# EAGLE library part MCP4728 (library ds_ic_peripherals)
12-Bit, Quad Digital-to-Analog Converter with EEPROM Memory
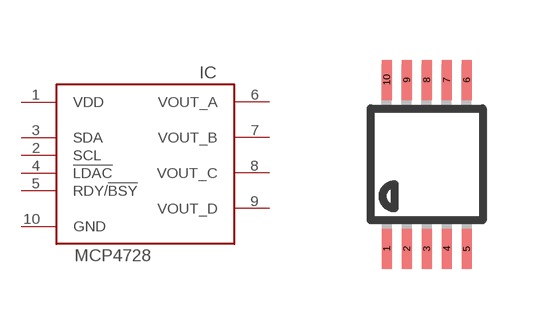
[diagram p14: symbol with the pads of MSOP10; footprint MSOP10]

Designator prefix IC

## MCP4728  [MSOP10]
1  VDD  pwr
2  SCL
3  SDA
4  !LDAC
5  RDY/!BSY
6  VOUT_A  out
7  VOUT_B  out
8  VOUT_C  out
9  VOUT_D  out
10  GND  pwr

## Footprint MSOP10 (pad centres in mm)
10-Lead Mini Small Outline Package [MSOP] (RM-10) Source: http://www.analog.com/UploadedFiles/Data_Sheets/35641221898805SSM2167_b.pdf COMPLIANT TO JEDEC STANDARDS MO-187BA
smd 0.25 x 1: 1 -1,-2.113; 2 -0.5,-2.113; 3 0,-2.113; 4 0.5,-2.113; 5 1,-2.113; 6 1,2.113; 7 0.5,2.113; 8 0,2.113; 9 -0.5,2.113; 10 -1,2.113